# Altium schematic symbol library SCH - ARM CORTEX - STM STM8AL3L66Tx.SchLib: 1 symbol
Pins are listed as number, name and electrical type; pins without a type are passive.

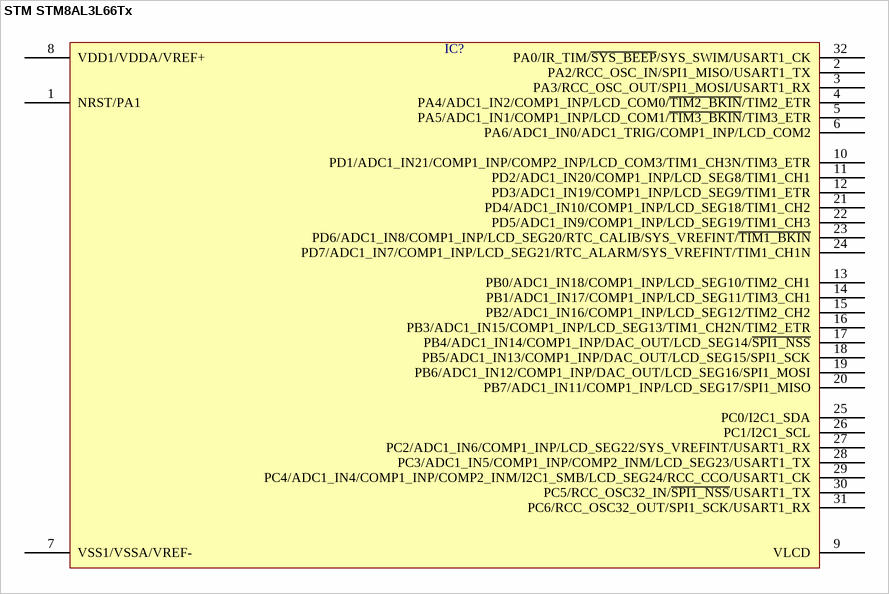
[diagram p0: symbol STM STM8AL3L66Tx]

## STM STM8AL3L66Tx
designator IC?  (value not drawn)
pins: 1 NRST/PA1, 2 PA2/RCC_OSC_IN/SPI1_MISO/USART1_TX, 3 PA3/RCC_OSC_OUT/SPI1_MOSI/USART1_RX, 4 PA4/ADC1_IN2/COMP1_INP/LCD_COM0/~{TIM2_BKIN}/TIM2_ETR, 5 PA5/ADC1_IN1/COMP1_INP/LCD_COM1/~{TIM3_BKIN}/TIM3_ETR, 6 PA6/ADC1_IN0/ADC1_TRIG/COMP1_INP/LCD_COM2, 7 VSS1/VSSA/VREF-, 8 VDD1/VDDA/VREF+, 9 VLCD, 10 PD1/ADC1_IN21/COMP1_INP/COMP2_INP/LCD_COM3/TIM1_CH3N/TIM3_ETR, 11 PD2/ADC1_IN20/COMP1_INP/LCD_SEG8/TIM1_CH1, 12 PD3/ADC1_IN19/COMP1_INP/LCD_SEG9/TIM1_ETR, 13 PB0/ADC1_IN18/COMP1_INP/LCD_SEG10/TIM2_CH1, 14 PB1/ADC1_IN17/COMP1_INP/LCD_SEG11/TIM3_CH1, 15 PB2/ADC1_IN16/COMP1_INP/LCD_SEG12/TIM2_CH2, 16 PB3/ADC1_IN15/COMP1_INP/LCD_SEG13/TIM1_CH2N/TIM2_ETR, 17 PB4/ADC1_IN14/COMP1_INP/DAC_OUT/LCD_SEG14/~{SPI1_NSS}, 18 PB5/ADC1_IN13/COMP1_INP/DAC_OUT/LCD_SEG15/SPI1_SCK, 19 PB6/ADC1_IN12/COMP1_INP/DAC_OUT/LCD_SEG16/SPI1_MOSI, 20 PB7/ADC1_IN11/COMP1_INP/LCD_SEG17/SPI1_MISO, 21 PD4/ADC1_IN10/COMP1_INP/LCD_SEG18/TIM1_CH2, 22 PD5/ADC1_IN9/COMP1_INP/LCD_SEG19/TIM1_CH3, 23 PD6/ADC1_IN8/COMP1_INP/LCD_SEG20/RTC_CALIB/SYS_VREFINT/~{TIM1_BKIN}, 24 PD7/ADC1_IN7/COMP1_INP/LCD_SEG21/RTC_ALARM/SYS_VREFINT/TIM1_CH1N, 25 PC0/I2C1_SDA, 26 PC1/I2C1_SCL, 27 PC2/ADC1_IN6/COMP1_INP/LCD_SEG22/SYS_VREFINT/USART1_RX, 28 PC3/ADC1_IN5/COMP1_INP/COMP2_INM/LCD_SEG23/USART1_TX, 29 PC4/ADC1_IN4/COMP1_INP/COMP2_INM/I2C1_SMB/LCD_SEG24/RCC_CCO/USART1_CK, 30 PC5/RCC_OSC32_IN/~{SPI1_NSS}/USART1_TX, 31 PC6/RCC_OSC32_OUT/SPI1_SCK/USART1_RX, 32 PA0/IR_TIM/~{SYS_BEEP}/SYS_SWIM/USART1_CK